# Altium footprint library DSD_Aerobits_RPI4_OLED.PcbLib: 32 footprints (part 2 of 2)
Each footprint in its own frame and in the unit in brackets; x right, y up, seen from the top. Pads: shape width x height; smd on the part's side, far side on the other; paste and mask are expansions set on the pad; w line width, h text height; cw(c..) or ccw(c..) is an arc to the next point about the centre after c.
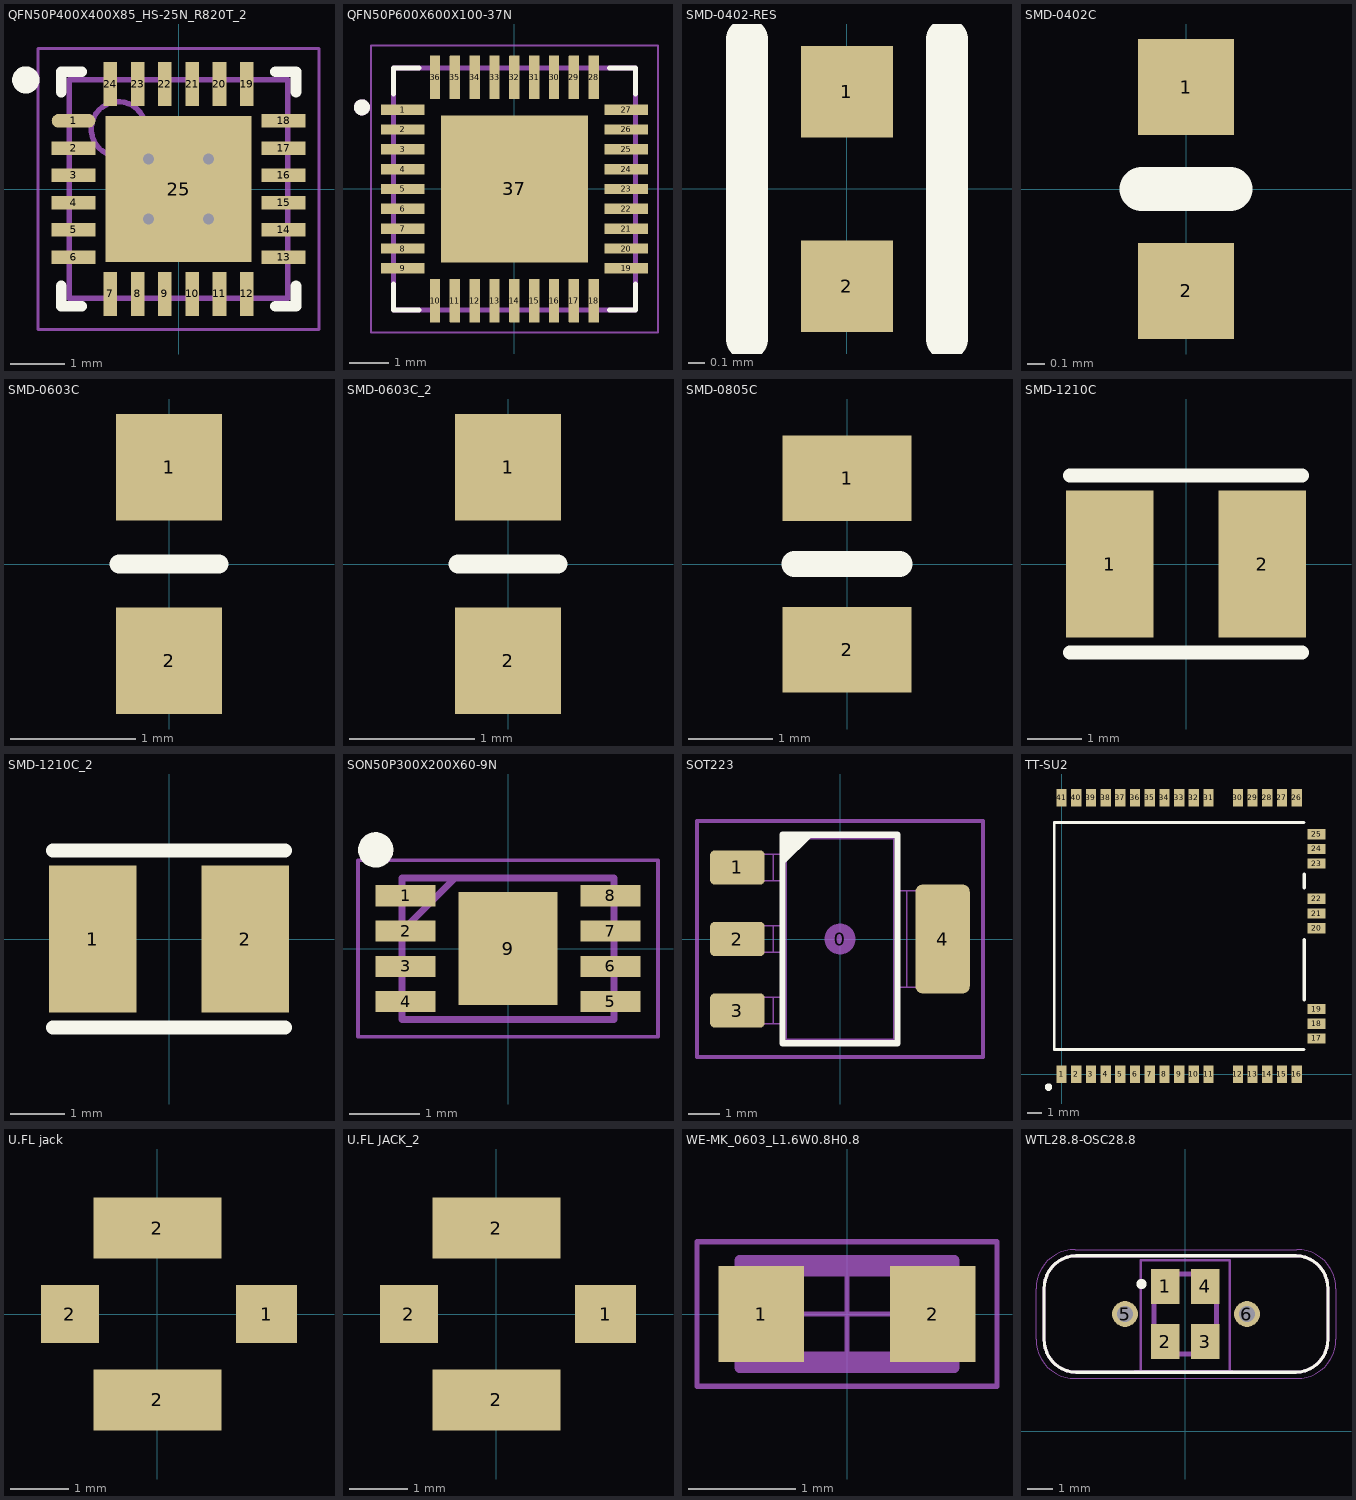
[diagram p1: the footprints below, top view; thin cyan lines are the x and y axes]

## QFN50P400X400X85_HS-25N_R820T_2 [mm]
pads (25):
  oval 0.8x0.25 smd: 1(-1.925,1.25)
  rect 0.8x0.25 smd: 2(-1.925,0.75) 3(-1.925,0.25) 4(-1.925,-0.25) 5(-1.925,-0.75) 6(-1.925,-1.25) 13(1.925,-1.25) 14(1.925,-0.75) 15(1.925,-0.25) 16(1.925,0.25) 17(1.925,0.75) 18(1.925,1.25)
  rect 0.25x0.8 smd: 7(-1.25,-1.925) 8(-0.75,-1.925) 9(-0.25,-1.925) 10(0.25,-1.925) 11(0.75,-1.925) 12(1.25,-1.925) 19(1.25,1.925) 20(0.75,1.925) 21(0.25,1.925) 22(-0.25,1.925) 23(-0.75,1.925) 24(-1.25,1.925)
  rect 2.68x2.68 smd: 25(0,0)
via 0.55,-0.55 diameter 0.5 hole 0.2
via -0.55,-0.55 diameter 0.5 hole 0.2
via 0.55,0.55 diameter 0.5 hole 0.2
via -0.55,0.55 diameter 0.5 hole 0.2
Top Overlay:
  circle w0.25: c-2.8,2 r0.125
  lines w0.2: -2.15,-1.775 -2.15,-2.15 -1.775,-2.15 ; -2.15,1.775 -2.15,2.15 -1.775,2.15 ; 1.775,-2.15 2.15,-2.15 2.15,-1.775 ; 1.775,2.15 2.15,2.15 2.15,1.775
Mechanical 13:
  circle w0.1: c-1.1,1.1 r0.5
  lines w0.1: -2,-2 2,-2 2,2 -2,2 -2,-2
Mechanical 15:
  lines w0.05: -2.575,-2.575 2.575,-2.575 2.575,2.575 -2.575,2.575 -2.575,-2.575
  lines w0.1: -0.5,0 0.5,0 ; 0,-0.5 0,0.5
3D body "QFN50P400X400X85_HS-25N.step": height 0.85, standoff 0, extent -2.02,-2.02 2.02,2.02

## QFN50P600X600X100-37N [mm]
pads (37):
  rrect7% 1.1x0.26 smd: 1(-2.815,2) 2(-2.815,1.5) 3(-2.815,1) 4(-2.815,0.5) 5(-2.815,0) 6(-2.815,-0.5) 7(-2.815,-1) 8(-2.815,-1.5) 9(-2.815,-2) 19(2.815,-2) 20(2.815,-1.5) 21(2.815,-1) 22(2.815,-0.5) 23(2.815,0) 24(2.815,0.5) 25(2.815,1) 26(2.815,1.5) 27(2.815,2)
  rrect7% 0.26x1.1 smd: 10(-2,-2.815) 11(-1.5,-2.815) 12(-1,-2.815) 13(-0.5,-2.815) 14(0,-2.815) 15(0.5,-2.815) 16(1,-2.815) 17(1.5,-2.815) 18(2,-2.815) 28(2,2.815) 29(1.5,2.815) 30(1,2.815) 31(0.5,2.815) 32(0,2.815) 33(-0.5,2.815) 34(-1,2.815) 35(-1.5,2.815) 36(-2,2.815)
  rect 3.7x3.7 smd paste-3: 37(0,0)
Top Overlay:
  circle w0.2: c-3.843,2.058 r0.1
  lines w0.127: -3.05,-2.4 -3.05,-3.05 -2.4,-3.05 ; -3.05,2.4 -3.05,3.05 -2.4,3.05 ; 2.4,-3.05 3.05,-3.05 3.05,-2.4 ; 2.4,3.05 3.05,3.05 3.05,2.4
Top Paste:
  region: -0.18,-1.49 -1.49,-1.49 -1.49,-0.18 -0.18,-0.18
  region: 1.49,-1.49 0.18,-1.49 0.18,-0.18 1.49,-0.18
  region: 1.49,0.18 0.18,0.18 0.18,1.49 1.49,1.49
  region: -0.18,0.18 -1.49,0.18 -1.49,1.49 -0.18,1.49
Mechanical 13:
  circle w0.2: c-3.843,2.058 r0.1
  lines w0.127: -3.05,-3.05 -3.05,3.05 3.05,3.05 3.05,-3.05 -3.05,-3.05
Mechanical 15:
  lines w0.05: -3.62,-3.62 -3.62,3.62 3.62,3.62 3.62,-3.62 -3.62,-3.62
3D body "ALSRobot-QFN36 6x6.step": height 0.9, standoff 0.01, extent -3.103,-3.103 3.103,3.103

## SMD-0402-RES [mm]
pads (2):
  rect 0.55x0.55 smd: 1(0,0.584) 2(0,-0.584)
Top Overlay:
  lines w0.254: -0.6,-0.9 -0.6,0.9 ; 0.6,-0.9 0.6,0.9
3D body "resistor0402.step": height 0.41, standoff 0, extent -0.275,-0.575 0.275,0.575

## SMD-0402C [mm]
pads (2):
  rect 0.55x0.55 smd: 1(0,0.584) 2(0,-0.584)
Top Overlay:
  lines w0.254: -0.254,0 0.254,0
3D body "capacitor 0402.step": height 0.51, standoff 0, extent -0.254,-0.508 0.254,0.508

## SMD-0603C [mm]
pads (2):
  rect 0.85x0.85 smd: 1(0,0.775) 2(0,-0.775)
Top Overlay:
  lines w0.152: -0.4,0 0.4,0
3D body "capacitor 0603.step": height 0.9, standoff 0, extent -0.4,-0.8 0.4,0.8

## SMD-0603C_2 [mm]
pads (2):
  rect 0.85x0.85 smd: 1(0,0.775) 2(0,-0.775)
Top Overlay:
  lines w0.152: -0.4,0 0.4,0
3D body "capacitor 0603.step": height 0.9, standoff 0, extent -0.4,-0.8 0.4,0.8

## SMD-0805C [mil]
pads (2):
  rect 60x40 smd: 1(0,40) 2(0,-40)
Top Overlay:
  lines w12: -24.6,0.01 24.6,0.01
3D body "capacitor 0805.step": height 35.43, standoff 0, extent -24.6,-39.36 24.6,39.38

## SMD-1210C [mm]
pads (2):
  rect 1.6x2.7 smd: 1(-1.4,0) 2(1.4,0)
Top Overlay:
  lines w0.254: -2.125,-1.625 2.125,-1.625 ; -2.125,1.625 2.125,1.625
3D body "User Library-1210(3225M) Cap.step": height 1.7, standoff 0, extent -2,-1.219 2,1.27

## SMD-1210C_2 [mm]
pads (2):
  rect 1.6x2.7 smd: 1(-1.4,0) 2(1.4,0)
Top Overlay:
  lines w0.254: -2.125,-1.625 2.125,-1.625 ; -2.125,1.625 2.125,1.625
3D body "User Library-1210(3225M) Cap.step": height 1.7, standoff 0, extent -2,-1.219 2,1.27

## SON50P300X200X60-9N [mm]
pads (9):
  rect 0.85x0.3 smd: 1(-1.45,0.75) 2(-1.45,0.25) 3(-1.45,-0.25) 4(-1.45,-0.75) 5(1.45,-0.75) 6(1.45,-0.25) 7(1.45,0.25) 8(1.45,0.75)
  rect 1.4x1.6 smd: 9(0,0)
Top Overlay:
  circle w0.25: c-1.875,1.4 r0.125
Mechanical 13:
  lines w0.1: -1.5,0.25 -0.75,1 ; -1.5,-1 -1.5,1 1.5,1 1.5,-1 -1.5,-1
Mechanical 15:
  lines w0.05: -2.125,-1.25 -2.125,1.25 2.125,1.25 2.125,-1.25 -2.125,-1.25
3D body "AT24C02C-MAHM-E.stp": height 0.6, standoff 0, extent -1.55,-1 1.55,1

## SOT223 [mm]
pads (5):
  round 1 on Mech15: 0(0,0)
  rrect25% 1.75x1.1 smd: 1(-3.3,2.3) 2(-3.3,0) 3(-3.3,-2.3)
  rrect25% 1.75x3.5 smd: 4(3.3,0)
Top Overlay:
  region: -1.85,3.35 -0.85,3.35 -1.85,2.35
  lines w0.2: -1.85,-3.35 1.85,-3.35 1.85,3.35 -1.85,3.35 -1.85,-3.35
Mechanical 13:
  lines w0.05: -3.186,-2.72 -3.186,-1.88 ; -3.186,-0.42 -3.186,0.42 ; -3.186,1.88 -3.186,2.72 ; -3.062,-2.72 -3.062,-1.88 ; -3.062,-0.42 -3.062,0.42 ; -3.062,1.88 -3.062,2.72 ; -2.506,-2.72 -2.506,-1.88 ; -2.506,-0.42 -2.506,0.42 ; -2.506,1.88 -2.506,2.72 ; -2.152,-2.72 -2.152,-1.88 ; -2.152,-0.42 -2.152,0.42 ; -2.152,1.88 -2.152,2.72 ; -1.85,-2.72 -1.85,-3.35 ; -1.85,-1.88 -1.85,-0.42 ; -1.85,0.42 -1.85,1.88 ; -1.85,2.72 -1.85,3.35 ; 1.85,-1.55 1.85,-3.35 ; 1.85,1.55 1.85,3.35 ; 2.152,-1.55 2.152,1.55 ; 2.506,-1.55 2.506,1.55 ; 3.062,-1.55 3.062,1.55 ; 3.186,-1.55 3.186,1.55 ; -1.85,-3.35 1.85,-3.35 ; -1.85,-3.35 -1.731,-3.231 ; -1.85,3.35 1.85,3.35 ; -1.85,3.35 -1.731,3.231 ; -1.731,-3.231 -1.731,3.231 ; -1.731,-3.231 1.731,-3.231 ; -1.731,3.231 1.731,3.231 ; 1.731,-3.231 1.731,3.231 ; 1.731,-3.231 1.85,-3.35 ; 1.731,3.231 1.85,3.35 ; -3.65,-2.72 -1.829,-2.72 -1.829,-1.88 -3.65,-1.88 -3.65,-2.72 ; -3.65,-0.42 -1.829,-0.42 -1.829,0.42 -3.65,0.42 -3.65,-0.42 ; -3.65,1.88 -1.829,1.88 -1.829,2.72 -3.65,2.72 -3.65,1.88 ; 1.829,-1.55 1.829,1.55 3.65,1.55 3.65,-1.55 1.829,-1.55
Mechanical 15:
  lines w0.127: -4.6,-3.8 4.6,-3.8 4.6,3.8 -4.6,3.8 -4.6,-3.8
3D body "SOT223-4.STEP": height 1.8, standoff 0, extent -3.65,-3.35 3.65,3.35

## TT-SU2 [mm]
pads (41):
  rect 0.7x1.2 smd: 1(0,0) 2(1,0) 3(2,0) 4(3,0) 5(4,0) 6(5,0) 7(6,0) 8(7,0) 9(8,0) 10(9,0) 11(10,0) 12(12,0) 13(13,0) 14(14,0) 15(15,0) 16(16,0) 26(16,18.8) 27(15,18.8) 28(14,18.8) 29(13,18.8) 30(12,18.8) 31(10,18.8) 32(9,18.8) 33(8,18.8) 34(7,18.8) 35(6,18.8) 36(5,18.8) 37(4,18.8) 38(3,18.8) 39(2,18.8) 40(1,18.8) 41(0,18.8)
  rect 1.2x0.7 smd: 17(17.352,2.422) 18(17.352,3.422) 19(17.352,4.422) 20(17.352,9.927) 21(17.352,10.927) 22(17.352,11.927) 23(17.352,14.323) 24(17.352,15.323) 25(17.352,16.323)
Top Overlay:
  circle w0.254: c-0.889,-0.889 r0.127
  lines w0.2: -0.5,9.144 -0.5,17.115 16.5,17.115 ; -0.5,9.15 -0.5,1.685 16.5,1.685
  lines w0.254: 16.51,5.08 16.51,9.144 ; 16.51,12.7 16.51,13.589
3D body "TT-SU2a.step": height 2.4, standoff 0, extent -0.975,-0.125 17.525,18.875

## U.FL jack [mm]
pads (4):
  rect 1.05x1 smd: 1(1.875,0)
  rect 1x1 smd: 2(-1.5,0)
  rect 2.2x1.05 smd: 2(0,-1.475) 2(0,1.475)
3D body "u.Fl Antenna Connector - 523-A-1JB.SLDPRT": height 1.25, standoff 0, extent -1.5,-1.5 1.6,1.5

## U.FL JACK_2 [mm]
pads (4):
  rect 1.05x1 smd: 1(1.875,0)
  rect 1x1 smd: 2(-1.5,0)
  rect 2.2x1.05 smd: 2(0,-1.475) 2(0,1.475)
3D body "u.Fl Antenna Connector - 523-A-1JB.SLDPRT": height 1.25, standoff 0, extent -1.5,-1.5 1.6,1.5

## WE-MK_0603_L1.6W0.8H0.8 [mm]
pads (2):
  rect 0.8x0.9 smd: 1(-0.8,0) 2(0.8,0)
Top Courtyard:
  lines w0.05: -0.5,0 0.5,0 ; 0,-0.5 0,0.5 ; -1.4,-0.675 -1.4,0.675 1.4,0.675 1.4,-0.675 -1.4,-0.675
Top Component Outline:
  lines w0.1: -1,-0.5 -1,0.5 1,0.5 1,-0.5 -1,-0.5
Top 3D Body:
  lines w0.1: -0.8,-0.4 0.8,-0.4 0.8,0.4 -0.8,0.4 -0.8,-0.4
Top Designator:
  text ".Designator" at -2.499,-0.167 h0.5
3D body "7447860xxx _0603.stp": height 0.8, standoff 0, extent -0.8,-0.4 0.8,0.4

## WTL28.8-OSC28.8 [mm]
pads (6):
  rect 1.15x1.4 smd: 1(-0.8,5.799) 2(-0.8,3.599) 3(0.8,3.599) 4(0.8,5.799)
  round 1.03 hole 0.63: 5(-2.413,4.699) 6(2.467,4.699)
Top Overlay:
  lines w0.127: -5.648,3.687 ccw(c-4.353,3.664) -4.376,2.369 ; -5.648,3.689 -5.648,5.709 ; -5.648,5.711 cw(c-4.353,5.734) -4.376,7.029 ; -4.378,2.369 4.432,2.369 ; -4.378,7.029 4.432,7.029 ; 4.43,2.369 ccw(c4.407,3.664) 5.702,3.687 ; 4.43,7.029 cw(c4.407,5.734) 5.702,5.711 ; 5.702,3.689 5.702,5.709
  lines w0.3: -1.8,5.899 cw(c-1.75,5.899) -1.7,5.899 cw(c-1.75,5.899) -1.8,5.899
Mechanical 13:
  lines w0.127: -5.648,3.687 ccw(c-4.353,3.664) -4.376,2.369 ; -5.648,3.689 -5.648,5.709 ; -5.648,5.711 cw(c-4.353,5.734) -4.376,7.029 ; -4.378,2.369 4.432,2.369 ; -4.378,7.029 4.432,7.029 ; 4.43,2.369 ccw(c4.407,3.664) 5.702,3.687 ; 4.43,7.029 cw(c4.407,5.734) 5.702,5.711 ; 5.702,3.689 5.702,5.709
  lines w0.2: -1.25,3.099 1.25,3.099 1.25,6.299 -1.25,6.299 -1.25,3.099
Mechanical 15:
  lines w0.05: -5.973,3.689 ccw(c-4.403,3.689) -4.403,2.119 4.457,2.119 ccw(c4.457,3.689) 6.027,3.689 6.027,5.709 ccw(c4.457,5.709) 4.457,7.279 -4.403,7.279 ccw(c-4.403,5.709) -5.973,5.709 -5.973,3.689
  lines w0.1: -2.032,2.413 1.905,2.413 ; -1.778,2.413 -1.778,6.858 1.778,6.858 1.778,2.413
3D body "TSX-3225_16.0000MF10U-B0.stp": height 0.7, standoff 0, extent -1.26,3.014 1.26,6.384